# EAGLE library part 349707A (library Doc-Test_Interface)
DIO
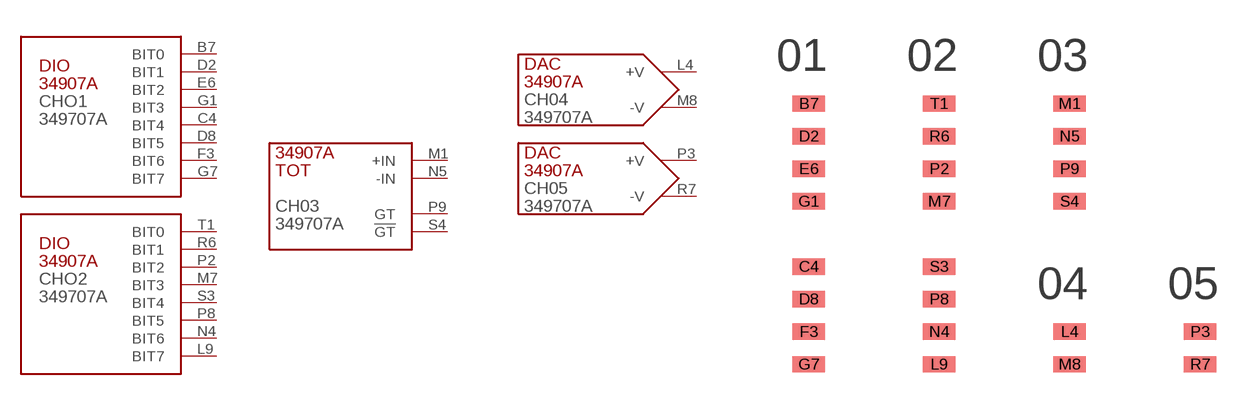
[diagram p2: symbol with the pads of DIOPAC; footprint DIOPAC]

Designator prefix CH; gates O1=DIO O2=DIO 03=TOTALIZER 04=DAC 05=DAC

## 349707A  [DIOPAC]
B7  O1:BIT0  in
C4  O1:BIT4  in
D2  O1:BIT1  in
D8  O1:BIT5  in
E6  O1:BIT2  in
F3  O1:BIT6  in
G1  O1:BIT3  in
G7  O1:BIT7  in
L4  04:+V  in
L9  O2:BIT7  in
M1  03:+IN  in
M7  O2:BIT3  in
M8  04:-V  in
N4  O2:BIT6  in
N5  03:-IN  in
P2  O2:BIT2  in
P3  05:+V  in
P8  O2:BIT5  in
P9  03:GT  in
R6  O2:BIT1  in
R7  05:-V  in
S3  O2:BIT4  in
S4  03:!GT  in
T1  O2:BIT0  in

## Footprint DIOPAC (pad centres in mm)
smd 1.27 x 0.635: B7 -2.54,5.08; C4 -2.54,-1.27; D2 -2.54,3.81; D8 -2.54,-2.54; E6 -2.54,2.54; F3 -2.54,-3.81; G1 -2.54,1.27; G7 -2.54,-5.08; L4 7.62,-3.81; L9 2.54,-5.08; M1 7.62,5.08; M7 2.54,1.27; M8 7.62,-5.08; N4 2.54,-3.81; N5 7.62,3.81; P2 2.54,2.54; P3 12.7,-3.81; P8 2.54,-2.54; P9 7.62,2.54; R6 2.54,3.81; R7 12.7,-5.08; S3 2.54,-1.27; S4 7.62,1.27; T1 2.54,5.08